# Altium footprint library WE-DD.PcbLib: 6 footprints
Each footprint in its own frame and in the unit in brackets; x right, y up, seen from the top. Pads: shape width x height; smd on the part's side, far side on the other; paste and mask are expansions set on the pad; w line width, h text height; cw(c..) or ccw(c..) is an arc to the next point about the centre after c.
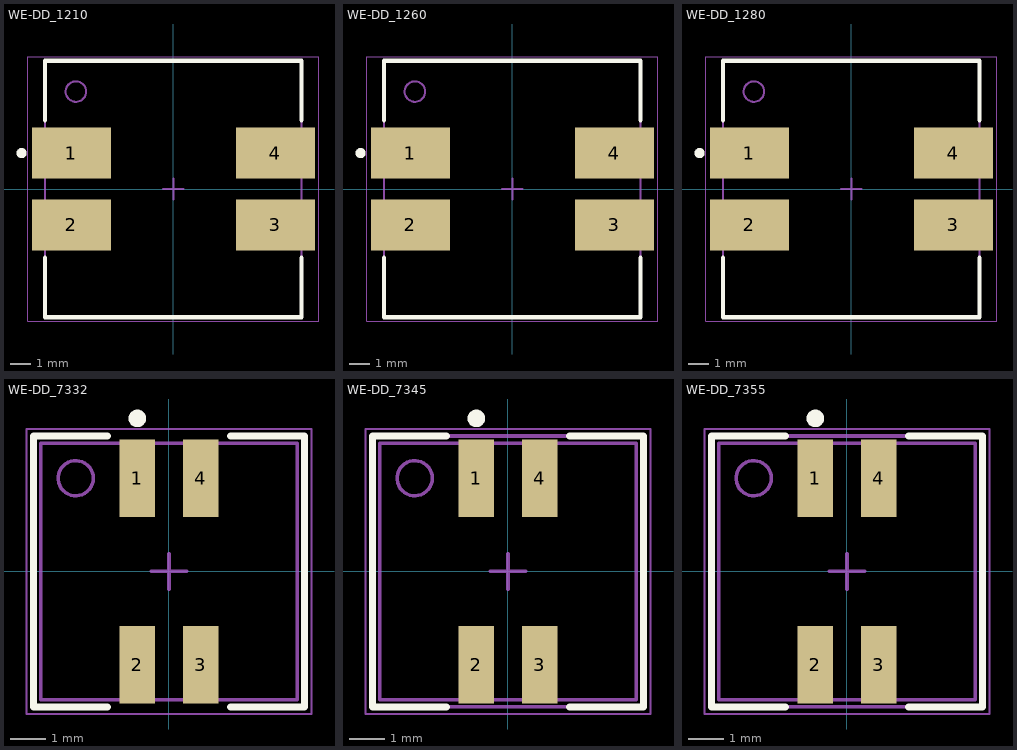
[diagram p0: the footprints below, top view; thin cyan lines are the x and y axes]

## WE-DD_1210 [mm] "SMT Shielded Coupled Inductor, 4-Leads, body 12.5x12.5mm"
height 10.5
pads (4):
  rect 3.85x2.5 smd: 1(-4.975,1.75) 2(-4.975,-1.75) 3(4.975,-1.75) 4(4.975,1.75)
Top Overlay:
  circle w0.25: c-7.4,1.75 r0.125
  lines w0.2: -6.25,-3.35 -6.25,-6.25 6.25,-6.25 6.25,-3.35 ; -6.25,3.35 -6.25,6.25 6.25,6.25 6.25,3.35
Top Assembly:
  circle w0.1: c-4.75,4.75 r0.5
  lines w0.1: -6.25,-6.25 -6.25,6.25 6.25,6.25 6.25,-6.25 -6.25,-6.25
Top Designator:
  text ".Designator" at -3.647,-0.357 h1
Top 3D Body:
  circle w0.1: c-4.75,4.75 r0.5
  lines w0.1: -6.25,-6.25 -6.25,6.25 6.25,6.25 6.25,-6.25 -6.25,-6.25
Top Courtyard:
  lines w0.05: -7.1,-6.45 -7.1,6.45 7.1,6.45 7.1,-6.45 -7.1,-6.45
Top Component Center:
  lines w0.1: -0.5,0 0.5,0 ; 0,-0.5 0,0.5
3D body "WE-DD_1210.stp": height 10.52, standoff 0.02, extent -6.25,-6.25 6.25,6.25

## WE-DD_1260 [mm] "SMT Shielded Coupled Inductor, 4-Leads, body 12.5x12.5mm"
height 6.5
pads (4):
  rect 3.85x2.5 smd: 1(-4.975,1.75) 2(-4.975,-1.75) 3(4.975,-1.75) 4(4.975,1.75)
Top Overlay:
  circle w0.25: c-7.4,1.75 r0.125
  lines w0.2: -6.25,-3.35 -6.25,-6.25 6.25,-6.25 6.25,-3.35 ; -6.25,3.35 -6.25,6.25 6.25,6.25 6.25,3.35
Top Assembly:
  circle w0.1: c-4.75,4.75 r0.5
  lines w0.1: -6.25,-6.25 -6.25,6.25 6.25,6.25 6.25,-6.25 -6.25,-6.25
Top Designator:
  text ".Designator" at -3.647,-0.357 h1
Top 3D Body:
  circle w0.1: c-4.75,4.75 r0.5
  lines w0.1: -6.25,-6.25 -6.25,6.25 6.25,6.25 6.25,-6.25 -6.25,-6.25
Top Courtyard:
  lines w0.05: -7.1,-6.45 -7.1,6.45 7.1,6.45 7.1,-6.45 -7.1,-6.45
Top Component Center:
  lines w0.1: -0.5,0 0.5,0 ; 0,-0.5 0,0.5
3D body "STEP-WE-DD-1260_CROSSED-rev1.stp": height 6.62, standoff 0.02, extent -6.25,-6.25 6.25,6.25

## WE-DD_1280 [mm] "SMT Shielded Coupled Inductor, 4-Leads, body 12.5x12.5mm"
height 8.5
pads (4):
  rect 3.85x2.5 smd: 1(-4.975,1.75) 2(-4.975,-1.75) 3(4.975,-1.75) 4(4.975,1.75)
Top Overlay:
  circle w0.25: c-7.4,1.75 r0.125
  lines w0.2: -6.25,-3.35 -6.25,-6.25 6.25,-6.25 6.25,-3.35 ; -6.25,3.35 -6.25,6.25 6.25,6.25 6.25,3.35
Top Assembly:
  circle w0.1: c-4.75,4.75 r0.5
  lines w0.1: -6.25,-6.25 6.25,-6.25 6.25,6.25 -6.25,6.25 -6.25,-6.25
Top Designator:
  text ".Designator" at -3.647,-0.357 h1
Top 3D Body:
  circle w0.1: c-4.75,4.75 r0.5
  lines w0.1: -6.25,-6.25 6.25,-6.25 6.25,6.25 -6.25,6.25 -6.25,-6.25
Top Courtyard:
  lines w0.05: -7.1,-6.45 7.1,-6.45 7.1,6.45 -7.1,6.45 -7.1,-6.45
Top Component Center:
  lines w0.1: -0.5,0 0.5,0 ; 0,-0.5 0,0.5
3D body "STEP-WE-DD-1280_CROSSED-rev1.stp": height 8.62, standoff 0.02, extent -6.25,-6.25 6.25,6.25

## WE-DD_7332 [mm] "SMT Shielded Coupled Inductor, 4-Leads, body"
height 4
pads (4):
  rect 1x2.2 smd: 1(-0.9,2.65) 2(-0.9,-2.65) 3(0.9,-2.65) 4(0.9,2.65)
Top Overlay:
  circle w0.25: c-0.9,4.35 r0.125
  lines w0.2: -1.75,-3.85 -3.85,-3.85 -3.85,3.85 -1.75,3.85 ; 1.75,-3.85 3.85,-3.85 3.85,3.85 1.75,3.85
Top Assembly:
  circle w0.1: c-2.65,2.65 r0.5
  lines w0.1: -3.65,-3.65 3.65,-3.65 3.65,3.65 -3.65,3.65 -3.65,-3.65
Top Designator:
  text ".Designator" at -3.647,-0.357 h1
Top 3D Body:
  circle w0.1: c-2.65,2.65 r0.5
  lines w0.1: -3.65,-3.65 3.65,-3.65 3.65,3.65 -3.65,3.65 -3.65,-3.65
Top Courtyard:
  lines w0.05: -4.05,-4.05 4.05,-4.05 4.05,4.05 -4.05,4.05 -4.05,-4.05
Top Component Center:
  lines w0.1: -0.5,0 0.5,0 ; 0,-0.5 0,0.5
3D body "IndDD 7332 - 744878xxx_S.stp": height 4.03, standoff 0.03, extent -3.65,-3.65 3.65,3.65

## WE-DD_7345 [mm] "SMT Shielded Coupled Inductor, 4-Leads, body 7.3x7.3mm"
height 4.8
pads (4):
  rect 1x2.2 smd: 1(-0.9,2.65) 2(-0.9,-2.65) 3(0.9,-2.65) 4(0.9,2.65)
Top Overlay:
  circle w0.25: c-0.9,4.35 r0.125
  lines w0.2: -1.75,-3.85 -3.85,-3.85 -3.85,3.85 -1.75,3.85 ; 1.75,-3.85 3.85,-3.85 3.85,3.85 1.75,3.85
Top Assembly:
  circle w0.1: c-2.65,2.65 r0.5
  lines w0.1: -3.85,-3.85 3.85,-3.85 3.85,3.85 -3.85,3.85 -3.85,-3.85
Top Designator:
  text ".Designator" at -3.647,-0.357 h1
Top 3D Body:
  circle w0.1: c-2.65,2.65 r0.5
  lines w0.1: -3.65,-3.65 3.65,-3.65 3.65,3.65 -3.65,3.65 -3.65,-3.65
Top Courtyard:
  lines w0.05: -4.05,-4.05 4.05,-4.05 4.05,4.05 -4.05,4.05 -4.05,-4.05
Top Component Center:
  lines w0.1: -0.5,0 0.5,0 ; 0,-0.5 0,0.5
3D body "IndDD 7345 - 744877xxx_M.stp": height 4.83, standoff 0.03, extent -3.65,-3.65 3.65,3.65

## WE-DD_7355 [mm] "SMT Shielded Coupled Inductor, 4-Leads, body 7.3x7.3mm"
height 5.8
pads (4):
  rect 1x2.2 smd: 1(-0.9,2.65) 2(-0.9,-2.65) 3(0.9,-2.65) 4(0.9,2.65)
Top Overlay:
  circle w0.25: c-0.9,4.35 r0.125
  lines w0.2: -1.75,-3.85 -3.85,-3.85 -3.85,3.85 -1.75,3.85 ; 1.75,-3.85 3.85,-3.85 3.85,3.85 1.75,3.85
Top Assembly:
  circle w0.1: c-2.65,2.65 r0.5
  lines w0.1: -3.85,-3.85 -3.85,3.85 3.85,3.85 3.85,-3.85 -3.85,-3.85
Top Designator:
  text ".Designator" at -3.647,-0.357 h1
Top 3D Body:
  circle w0.1: c-2.65,2.65 r0.5
  lines w0.1: -3.65,-3.65 -3.65,3.65 3.65,3.65 3.65,-3.65 -3.65,-3.65
Top Courtyard:
  lines w0.05: -4.05,-4.05 -4.05,4.05 4.05,4.05 4.05,-4.05 -4.05,-4.05
Top Component Center:
  lines w0.1: -0.5,0 0.5,0 ; 0,-0.5 0,0.5
3D body "WE-DD_7355.stp": height 5.83, standoff 0.03, extent -3.65,-3.65 3.65,3.65